# EAGLE library part MICS-SMD14 (library con-lumberg)
CONNECTOR
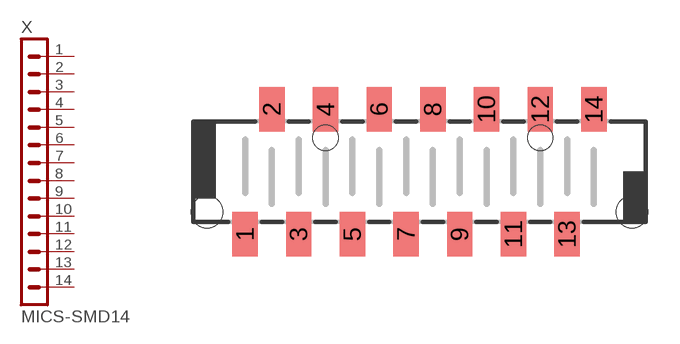
[diagram p27: symbol with the pads of MICSMD14; footprint MICSMD14]

Designator prefix X

## MICS-SMD14 (OC_FARNELL: unknown; OC_NEWARK: unknown)  [MICSMD14]
1  1  pas
2  2  pas
3  3  pas
4  4  pas
5  5  pas
6  6  pas
7  7  pas
8  8  pas
9  9  pas
10  10  pas
11  11  pas
12  12  pas
13  13  pas
14  14  pas

## Footprint MICSMD14 (pad centres in mm)
CONNECTOR
smd 1.2 x 2.1: 1 -8.255,-2.959; 2 -6.985,2.959; 3 -5.715,-2.959; 4 -4.445,2.959; 5 -3.175,-2.959; 6 -1.905,2.959; 7 -0.635,-2.959; 8 0.635,2.959; 9 1.905,-2.959; 10 3.175,2.959; 11 4.445,-2.959; 12 5.715,2.959; 13 6.985,-2.959; 14 8.255,2.959
hole 1.5 at 10.055,-1.912
hole 1.5 at -10.055,-1.912
hole 1.2 at -4.445,1.6
hole 1.2 at 5.715,1.6